# EAGLE library part BMG250 (library Gyroscopes)
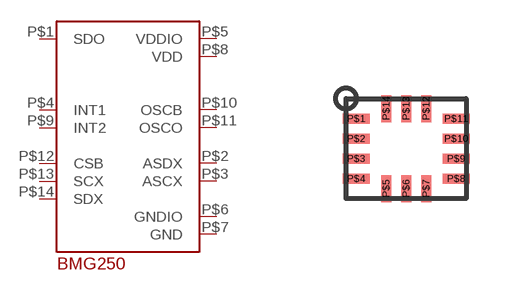
[diagram p0: symbol with the pads of LGA14; footprint LGA14]

Designator prefix U

## BMG250  [LGA14]
P$1  SDO
P$2  ASDX
P$3  ASCX
P$4  INT1
P$5  VDDIO  pwr
P$6  GNDIO  pwr
P$7  GND  pwr
P$8  VDD  pwr
P$9  INT2
P$10  OSCB
P$11  OSCO
P$12  CSB
P$13  SCX
P$14  SDX

## Footprint LGA14 (pad centres in mm)
smd 0.675 x 0.25: P$1 -1.25,0.75; P$2 -1.25,0.25; P$3 -1.25,-0.25; P$4 -1.25,-0.75; P$8 1.25,-0.75; P$9 1.25,-0.25; P$10 1.25,0.25; P$11 1.25,0.75
smd 0.25 x 0.675: P$5 -0.5,-1; P$6 0,-1; P$7 0.5,-1; P$12 0.5,1; P$13 0,1; P$14 -0.5,1